# EAGLE library part ATTINY2313 (library 1dah)
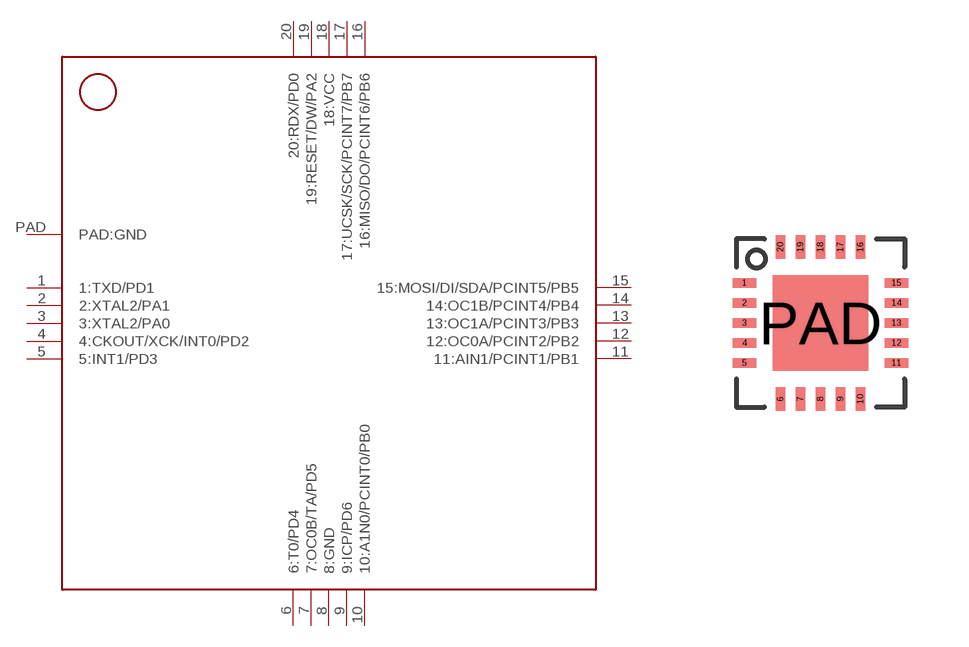
[diagram p35: symbol with the pads of MLF-20; footprint MLF-20]

Designator prefix -

## ATTINY2313MLF-20  [MLF-20]
1  1:TXD/PD1
2  2:XTAL2/PA1
3  3:XTAL2/PA0
4  4:CKOUT/XCK/INT0/PD2
5  5:INT1/PD3
6  6:T0/PD4
7  7:OC0B/TA/PD5
8  8:GND
9  9:ICP/PD6
10  10:A1N0/PCINT0/PB0
11  11:AIN1/PCINT1/PB1
12  12:OC0A/PCINT2/PB2
13  13:OC1A/PCINT3/PB3
14  14:OC1B/PCINT4/PB4
15  15:MOSI/DI/SDA/PCINT5/PB5
16  16:MISO/DO/PCINT6/PB6
17  17:UCSK/SCK/PCINT7/PB7
18  18:VCC
19  19:RESET/DW/PA2
20  20:RDX/PD0
PAD  PAD:GND

## Footprint MLF-20 (pad centres in mm)
smd 0.6 x 0.23: 1 -1.9,1; 2 -1.9,0.5; 3 -1.9,0; 4 -1.9,-0.5; 5 -1.9,-1; 11 1.9,-1; 12 1.9,-0.5; 13 1.9,0; 14 1.9,0.5; 15 1.9,1
smd 0.23 x 0.6: 6 -1,-1.9; 7 -0.5,-1.9; 8 0,-1.9; 9 0.5,-1.9; 10 1,-1.9; 16 1,1.9; 17 0.5,1.9; 18 0,1.9; 19 -0.5,1.9; 20 -1,1.9
smd 2.4 x 2.4: PAD 0,0